# Altium footprint library LC-DO-41.PcbLib: 1 footprints
Each footprint in its own frame and in the unit in brackets; x right, y up, seen from the top. Pads: shape width x height; smd on the part's side, far side on the other; paste and mask are expansions set on the pad; w line width, h text height; cw(c..) or ccw(c..) is an arc to the next point about the centre after c.
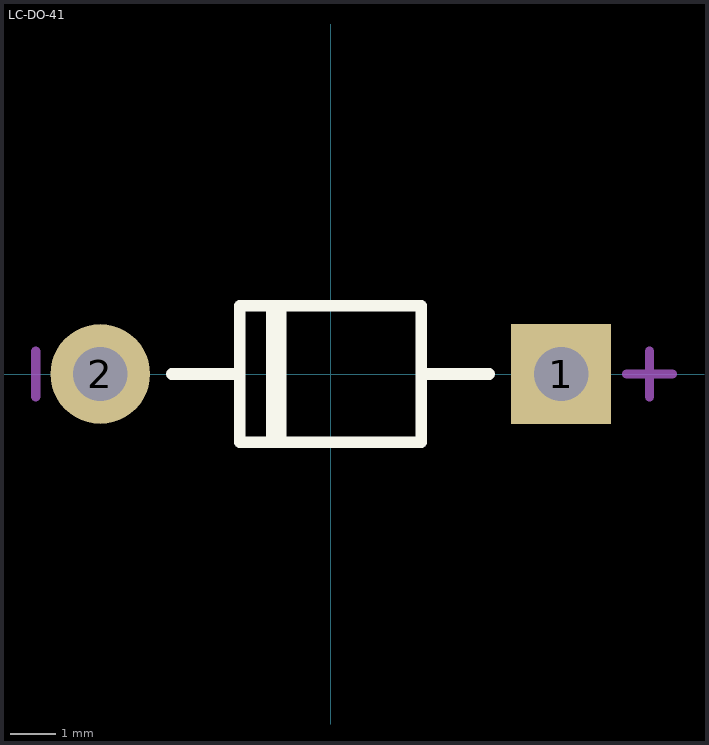
[diagram p0: the footprint, top view; thin cyan lines are the x and y axes]

## LC-DO-41 [mm]
pads (2):
  rect 2.2x2.2 hole 1.2: 1(5.08,0)
  round 2.2 hole 1.2: 2(-5.08,0)
Top Overlay:
  lines w0.254: -3.5,0 -2,0 ; -1.3,-1.4 -1.3,1.5 ; -1.1,-1.5 -1.1,1.4 ; 2,0 3.5,0 ; -2,-1.5 2,-1.5 2,1.5 -2,1.5 -2,-1.5
Mechanical 15:
  lines w0.203: -6.5,-0.5 -6.5,0.5 ; 6.53,0 7.53,0 ; 7.03,-0.5 7.03,0.5
3D body "DO-41.STEP": height 3.35, standoff -2, extent -5.51,-1.35 5.51,1.35